# Altium schematic symbol library ADG902.SchLib: 1 symbol
Pins are listed as number, name and electrical type; pins without a type are passive.

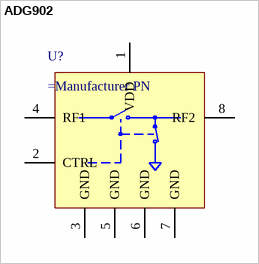
[diagram p0: symbol ADG902]

## ADG902
designator U?
RF Switch, SPST
pins: 1 VDD, 2 CTRL, 3 GND, 4 RF1, 5 GND, 6 GND, 7 GND, 8 RF2